# Altium schematic symbol library Lite-On.SchLib: 1 symbol
Pins are listed as number, name and electrical type; pins without a type are passive.

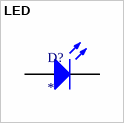
[diagram p0: symbol LED]

## LED
designator D?
Lite-On LTST-C170GKT (0805)
footprint LTST-C170GKT (Lite-On LTST-C170GKT (0805))
pins: 1 A, 2 K